# Altium schematic symbol library 2pines.SchLib: 1 symbol
Pins are listed as number, name and electrical type; pins without a type are passive.

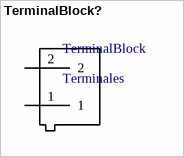
[diagram p0: symbol TerminalBlock?]

## TerminalBlock?
designator TerminalBlock, comment Terminales
footprint TerminalBlock
pins: 1, 2